# EAGLE library part STM32F031GX (library stm32)
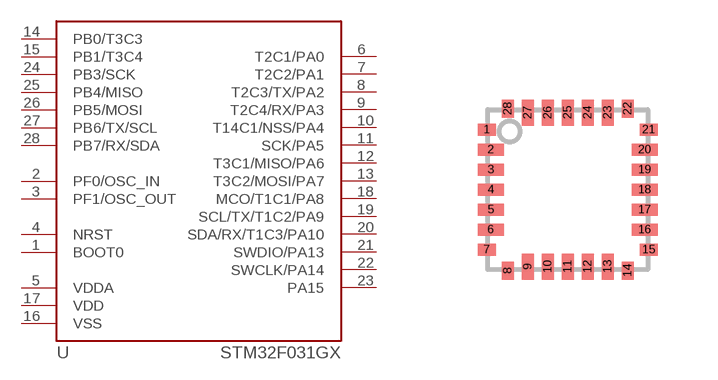
[diagram p0: symbol with the pads of UFQFPN28; footprint UFQFPN28]

Designator prefix U

## STM32F031GX  [UFQFPN28]
1  BOOT0  in
2  PF0/OSC_IN
3  PF1/OSC_OUT
4  NRST  in
5  VDDA  pwr
6  T2C1/PA0
7  T2C2/PA1
8  T2C3/TX/PA2
9  T2C4/RX/PA3
10  T14C1/NSS/PA4
11  SCK/PA5
12  T3C1/MISO/PA6
13  T3C2/MOSI/PA7
14  PB0/T3C3
15  PB1/T3C4
16  VSS  pwr
17  VDD  pwr
18  MCO/T1C1/PA8
19  SCL/TX/T1C2/PA9
20  SDA/RX/T1C3/PA10
21  SWDIO/PA13
22  SWCLK/PA14
23  PA15
24  PB3/SCK
25  PB4/MISO
26  PB5/MOSI
27  PB6/TX/SCL
28  PB7/RX/SDA

## Footprint UFQFPN28 (pad centres in mm)
smd 0.45 x 0.3: 1 -2.025,1.5; 7 -2.025,-1.5; 15 2.025,-1.5; 21 2.025,1.5
smd 0.65 x 0.3: 2 -1.925,1; 3 -1.925,0.5; 4 -1.925,0; 5 -1.925,-0.5; 6 -1.925,-1; 16 1.925,-1; 17 1.925,-0.5; 18 1.925,0; 19 1.925,0.5; 20 1.925,1
smd 0.3 x 0.45: 8 -1.5,-2.025; 14 1.5,-2.025; 22 1.5,2.025; 28 -1.5,2.025
smd 0.3 x 0.65: 9 -1,-1.925; 10 -0.5,-1.925; 11 0,-1.925; 12 0.5,-1.925; 13 1,-1.925; 23 1,1.925; 24 0.5,1.925; 25 0,1.925; 26 -0.5,1.925; 27 -1,1.925